# Altium footprint library PcbLib1.PcbLib: 3 footprints
Each footprint in its own frame and in the unit in brackets; x right, y up, seen from the top. Pads: shape width x height; smd on the part's side, far side on the other; paste and mask are expansions set on the pad; w line width, h text height; cw(c..) or ccw(c..) is an arc to the next point about the centre after c.
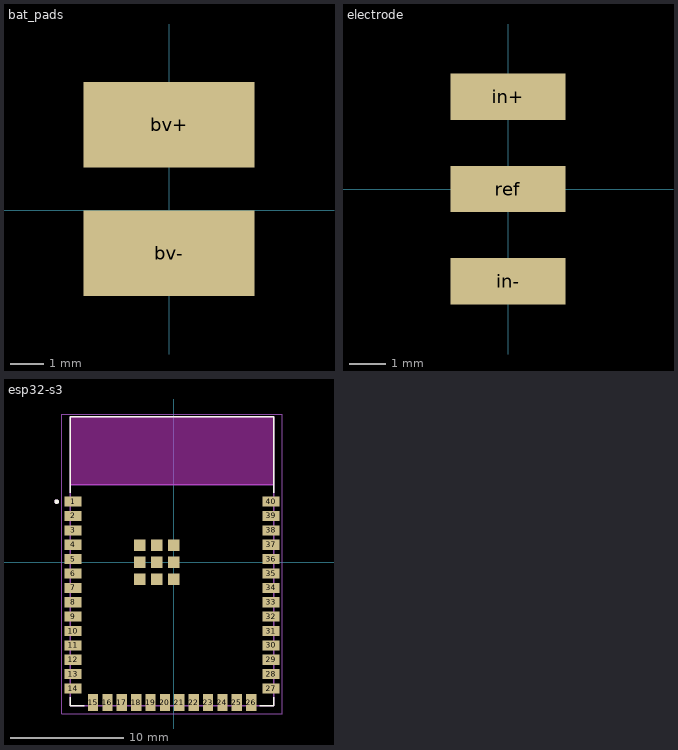
[diagram p0: the footprints below, top view; thin cyan lines are the x and y axes]

## bat_pads [mm]
pads (2):
  rect 5.08x2.54 smd: bv+(0,2.54) bv-(0,-1.27)

## electrode [mm]
pads (3):
  rect 3.175x1.27 smd: in+(0,2.54) in-(0,-2.54) ref(0,0)

## esp32-s3 [mm]
pads (49):
  rect 1.5x0.9 smd: 1(-8.89,5.35) 2(-8.89,4.08) 3(-8.89,2.81) 4(-8.89,1.54) 5(-8.89,0.27) 6(-8.89,-1) 7(-8.89,-2.27) 8(-8.89,-3.54) 9(-8.89,-4.81) 10(-8.89,-6.08) 11(-8.89,-7.35) 12(-8.89,-8.62) 13(-8.89,-9.89) 14(-8.89,-11.16) 27(8.61,-11.16) 28(8.61,-9.89) 29(8.61,-8.62) 30(8.61,-7.35) 31(8.61,-6.08) 32(8.61,-4.81) 33(8.61,-3.54) 34(8.61,-2.27) 35(8.61,-1) 36(8.61,0.27) 37(8.61,1.54) 38(8.61,2.81) 39(8.61,4.08) 40(8.61,5.35)
  rect 0.9x1.5 smd: 15(-7.125,-12.41) 16(-5.855,-12.41) 17(-4.585,-12.41) 18(-3.315,-12.41) 19(-2.045,-12.41) 20(-0.775,-12.41) 21(0.495,-12.41) 22(1.765,-12.41) 23(3.035,-12.41) 24(4.305,-12.41) 25(5.575,-12.41) 26(6.845,-12.41)
  rect 1x1 smd: 41_1(-1.5,0) 41_2(-3,0) 41_3(0,0) 41_4(-3,-1.5) 41_5(-1.5,-1.5) 41_6(0,-1.5) 41_7(-3,1.5) 41_8(-1.5,1.5) 41_9(0,1.5)
Top Overlay:
  circle w0.2: c-10.34,5.35 r0.1
  lines w0.127: -9.14,-11.93 -9.14,-12.66 -7.895,-12.66 ; -9.14,6.12 -9.14,12.84 8.86,12.84 8.86,6.12 ; 7.615,-12.66 8.86,-12.66 8.86,-11.93
Keep-Out Layer:
  region: 8.86,6.84 -9.14,6.84 -9.14,12.84 8.86,12.84
  region: 8.86,6.84 -9.14,6.84 -9.14,12.84 8.86,12.84
Mechanical 13:
  circle w0.2: c-10.34,5.35 r0.1
  lines w0.127: -9.14,6.84 8.86,6.84 ; -9.14,6.84 -9.14,12.84 8.86,12.84 8.86,6.84 ; -9.14,6.84 -9.14,-12.66 8.86,-12.66 8.86,6.84
  text "ANTENNA" at -4.64,9.59 h1.27
Mechanical 15:
  lines w0.05: -9.89,-13.41 9.61,-13.41 9.61,13.09 -9.89,13.09 -9.89,-13.41
3D body "step_temp.STEP": height 3.25, standoff 0, extent -9.14,-12.66 8.86,12.84